# Altium schematic symbol library ACT8311.SchLib: 1 symbol
Pins are listed as number, name and electrical type; pins without a type are passive.

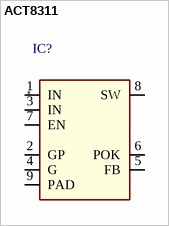
[diagram p0: symbol ACT8311]

## ACT8311
designator IC?
ID: ACT8311NHADJ-T; PDF: http://www.active-semi.com/sheets/ACT8309-11_Datasheet.pdf; PRICE: 1.49000; BUY_LINK: http://www.digikey.com/product-detail/en/ACT8311NHADJ-T/1488-1017-1-ND/4701093
footprint TDFN33-8
pins: 1 IN, 2 GP, 3 IN, 4 G, 5 FB, 6 POK, 7 EN, 8 SW, 9 PAD